# Altium footprint library Connectors_Terminals.PcbLib: 5 footprints
Each footprint in its own frame and in the unit in brackets; x right, y up, seen from the top. Pads: shape width x height; smd on the part's side, far side on the other; paste and mask are expansions set on the pad; w line width, h text height; cw(c..) or ccw(c..) is an arc to the next point about the centre after c.
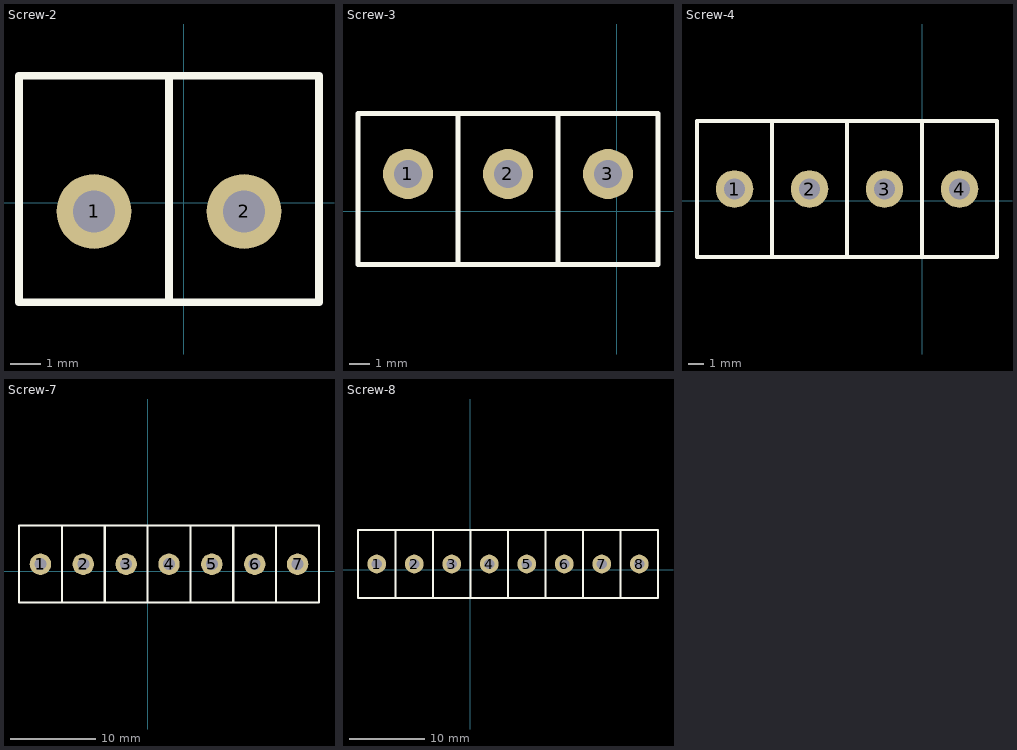
[diagram p0: the footprints below, top view; thin cyan lines are the x and y axes]

## Screw-2 [mm]
pads (2):
  round 2.5 hole 1.4: 1(-3,-0.3) 2(2,-0.3)
Top Overlay:
  lines w0.254: -0.5,-3.325 -0.5,4.2 ; -5.5,-3.325 -5.5,4.225 4.5,4.225 4.5,-3.325 -5.5,-3.325
3D body "User Library-Terminal-Screw-3A-2way.STEP": height 10, standoff -3, extent -6.075,-3.3 4.525,4.3

## Screw-3 [mm]
pads (3):
  round 2.5 hole 1.4: 1(-10.45,1.875) 2(-5.45,1.875) 3(-0.45,1.875)
Top Overlay:
  lines w0.254: -7.95,-2.625 -7.95,4.9 ; -2.95,-2.6 -2.95,4.9 ; -12.95,-2.65 2.05,-2.65 2.05,4.9 -12.95,4.9 -12.95,-2.65
3D body "User Library-Terminal-Screw-3A-3way.step": height 10, standoff -3, extent -12.95,-2.7 2.65,4.9

## Screw-4 [mm]
pads (4):
  round 2.5 hole 1.4: 1(-12.5,0.8) 2(-7.5,0.8) 3(-2.5,0.8) 4(2.5,0.8)
Top Overlay:
  lines w0.254: -10,-3.7 -10,5.3 ; 0,-3.7 0,5.3 ; -5,-3.725 -5,5.325 ; -5,-3.725 5,-3.725 5,5.325 -5,5.325 ; -5,-3.725 -5,5.325 ; -5,-3.725 -15,-3.725 -15,5.325 -5,5.325
3D body "User Library-2 Way PCB Screw Terminal Block 5mm.STEP": height 15.2, standoff -3.5, extent -15,-3.7 -5,5.3
3D body "User Library-2 Way PCB Screw Terminal Block 5mm.STEP": height 15.2, standoff -3.5, extent -5,-3.7 5,5.3

## Screw-7 [mm]
pads (7):
  round 2.5 hole 1.4: 1(-12.5,0.8) 2(-7.5,0.8) 3(-2.5,0.8) 4(2.5,0.8) 5(7.5,0.8) 6(12.5,0.8) 7(17.5,0.8)
Top Overlay:
  lines w0.254: -10,-3.675 -10,5.275 ; -5,-3.65 -5,5.3 ; 5,5.275 5,-3.675 ; 10,-3.675 10,5.275 ; 10,-3.65 10,5.3 ; 15,-3.65 15,5.3 ; 0,-3.675 0,5.325 ; 0,-3.675 -15,-3.675 -15,5.325 0,5.325 ; 0,-3.675 0,5.325 ; 0,-3.675 15,-3.675 15,5.325 0,5.325 ; 5,-3.675 5,5.325 20,5.325 20,-3.675 5,-3.675
3D body "User Library-2 Way PCB Screw Terminal Block 5mm.STEP": height 15.2, standoff -3.5, extent 10,-3.7 20,5.3
3D body "User Library-2 Way PCB Screw Terminal Block 5mm.STEP": height 15.2, standoff -3.5, extent 0,-3.7 10,5.3
3D body "User Library-3 Way PCB Screw Terminal Block 5mm.STEP": height 15.2, standoff -3.5, extent -14.975,-3.675 0.025,5.325

## Screw-8 [mm]
pads (8):
  round 2.5 hole 1.4: 1(-12.5,0.8) 2(-7.5,0.8) 3(-2.5,0.8) 4(2.5,0.8) 5(7.5,0.8) 6(12.5,0.8) 7(17.5,0.8) 8(22.5,0.8)
Top Overlay:
  lines w0.254: -10,-3.7 -10,5.3 ; 0,-3.7 0,5.3 ; 10,-3.7 10,5.3 ; 20,-3.7 20,5.3 ; -5,-3.725 -15,-3.725 -15,5.325 -5,5.325 ; -5,-3.725 -5,5.325 ; -5,-3.725 5,-3.725 ; -5,-3.725 -5,5.325 ; -5,5.325 5,5.325 ; 5,-3.725 5,5.325 ; 5,-3.725 15,-3.725 ; 5,-3.725 5,5.325 ; 5,5.325 15,5.325 ; 15,-3.725 15,5.325 ; 15,-3.725 25,-3.725 25,5.325 15,5.325 ; 15,-3.725 15,5.325
3D body "User Library-2 Way PCB Screw Terminal Block 5mm.STEP": height 15.2, standoff -3.5, extent -15,-3.7 -5,5.3
3D body "User Library-2 Way PCB Screw Terminal Block 5mm.STEP": height 15.2, standoff -3.5, extent -5,-3.7 5,5.3
3D body "User Library-2 Way PCB Screw Terminal Block 5mm.STEP": height 15.2, standoff -3.5, extent 5,-3.7 15,5.3
3D body "User Library-2 Way PCB Screw Terminal Block 5mm.STEP": height 15.2, standoff -3.5, extent 15,-3.7 25,5.3